# Altium schematic symbol library PTS636_SL43_LFS.SchLib: 1 symbol
Pins are listed as number, name and electrical type; pins without a type are passive.

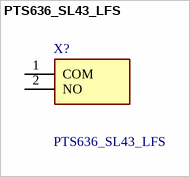
[diagram p0: symbol PTS636_SL43_LFS]

## PTS636_SL43_LFS
designator X?
Tactile Switches Tact 50mA 12VDC, 6.0x3.5, 4.3mm H, 130gf, THT leads, Black Actuator; Manufacturer_Name: C & K COMPONENTS; Manufacturer_Part_Number: PTS636 SL43 LFS; Geometry.Height: 4.5mm; Mouser Part Number: 611-PTS636SL43LFS; Mouser Price/Stock: https://www.mouser.co.uk/ProductDetail/CK/PTS636-SL43-LFS?qs=vLWxofP3U2xHB0Q2opWSaw%3D%3D; Arrow Part Number: PTS636 SL43 LFS; Arrow Price/Stock: https://www.arrow.com/en/products/pts636-sl43-lfs/ck?region=nac; Datasheet Link: https://componentsearchengine.com/Datasheets/1/PTS636 SL43 LFS.pdf
footprint PTS636SL43LFS
pins: 1 COM, 2 NO